# EAGLE library part RTC-8564NB-VER-AKITSUKI (library akitsuki-RTC-8564NB)
RTC-8564NB ver Akitsuki
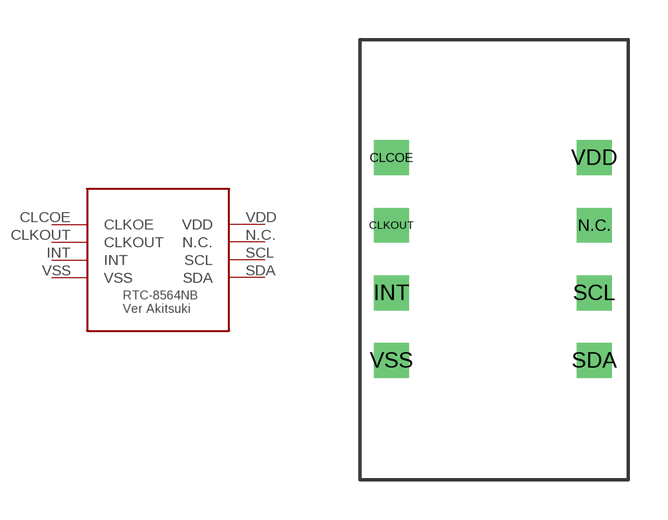
[diagram p0: symbol with the pads of RTC-8564NB-VER-AKITSUKI; footprint RTC-8564NB-VER-AKITSUKI]

Designator prefix -

## RTC-8564NB-VER-AKITSUKI  [RTC-8564NB-VER-AKITSUKI]
CLCOE  CLKOE
CLKOUT  CLKOUT
INT  INT
N.C.  N.C.
SCL  SCL
SDA  SDA
VDD  VDD
VSS  VSS

## Footprint RTC-8564NB-VER-AKITSUKI (pad centres in mm)
drill 0.8 square: CLCOE -3.81,3.81; CLKOUT -3.81,1.27; INT -3.81,-1.27; N.C. 3.81,1.27; SCL 3.81,-1.27; SDA 3.81,-3.81; VDD 3.81,3.81; VSS -3.81,-3.81